# EAGLE library part STM32F070F6 (library armm0)
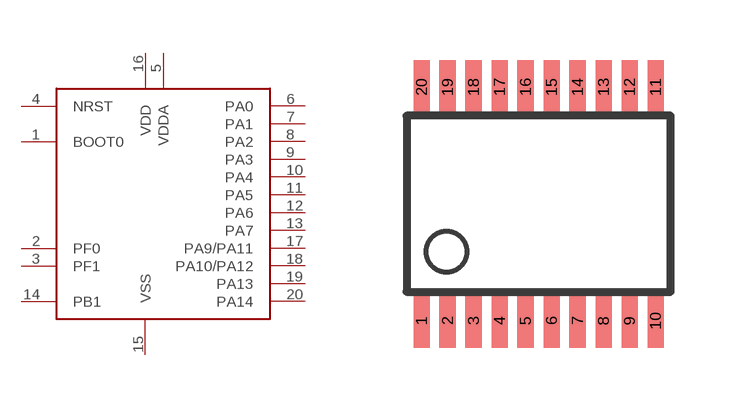
[diagram p0: symbol with the pads of TSSOP20; footprint TSSOP20]

Designator prefix -

## STM32F070F6  [TSSOP20]
1  BOOT0
2  PF0
3  PF1
4  NRST
5  VDDA
6  PA0
7  PA1
8  PA2
9  PA3
10  PA4
11  PA5
12  PA6
13  PA7
14  PB1
15  VSS
16  VDD
17  PA9/PA11
18  PA10/PA12
19  PA13
20  PA14

## Footprint TSSOP20 (pad centres in mm)
TSSOP20 - Thin Shrink Small Outline Package SOT360-1
smd 0.4 x 1.35: 1 -2.925,-2.925; 2 -2.275,-2.925; 3 -1.625,-2.925; 4 -0.975,-2.925; 5 -0.325,-2.925; 6 0.325,-2.925; 7 0.975,-2.925; 8 1.625,-2.925; 9 2.275,-2.925; 10 2.925,-2.925; 11 2.925,2.925; 12 2.275,2.925; 13 1.625,2.925; 14 0.975,2.925; 15 0.325,2.925; 16 -0.325,2.925; 17 -0.975,2.925; 18 -1.625,2.925; 19 -2.275,2.925; 20 -2.925,2.925